# Altium footprint library AHRS.PcbLib: 12 footprints
Each footprint in its own frame and in the unit in brackets; x right, y up, seen from the top. Pads: shape width x height; smd on the part's side, far side on the other; paste and mask are expansions set on the pad; w line width, h text height; cw(c..) or ccw(c..) is an arc to the next point about the centre after c.
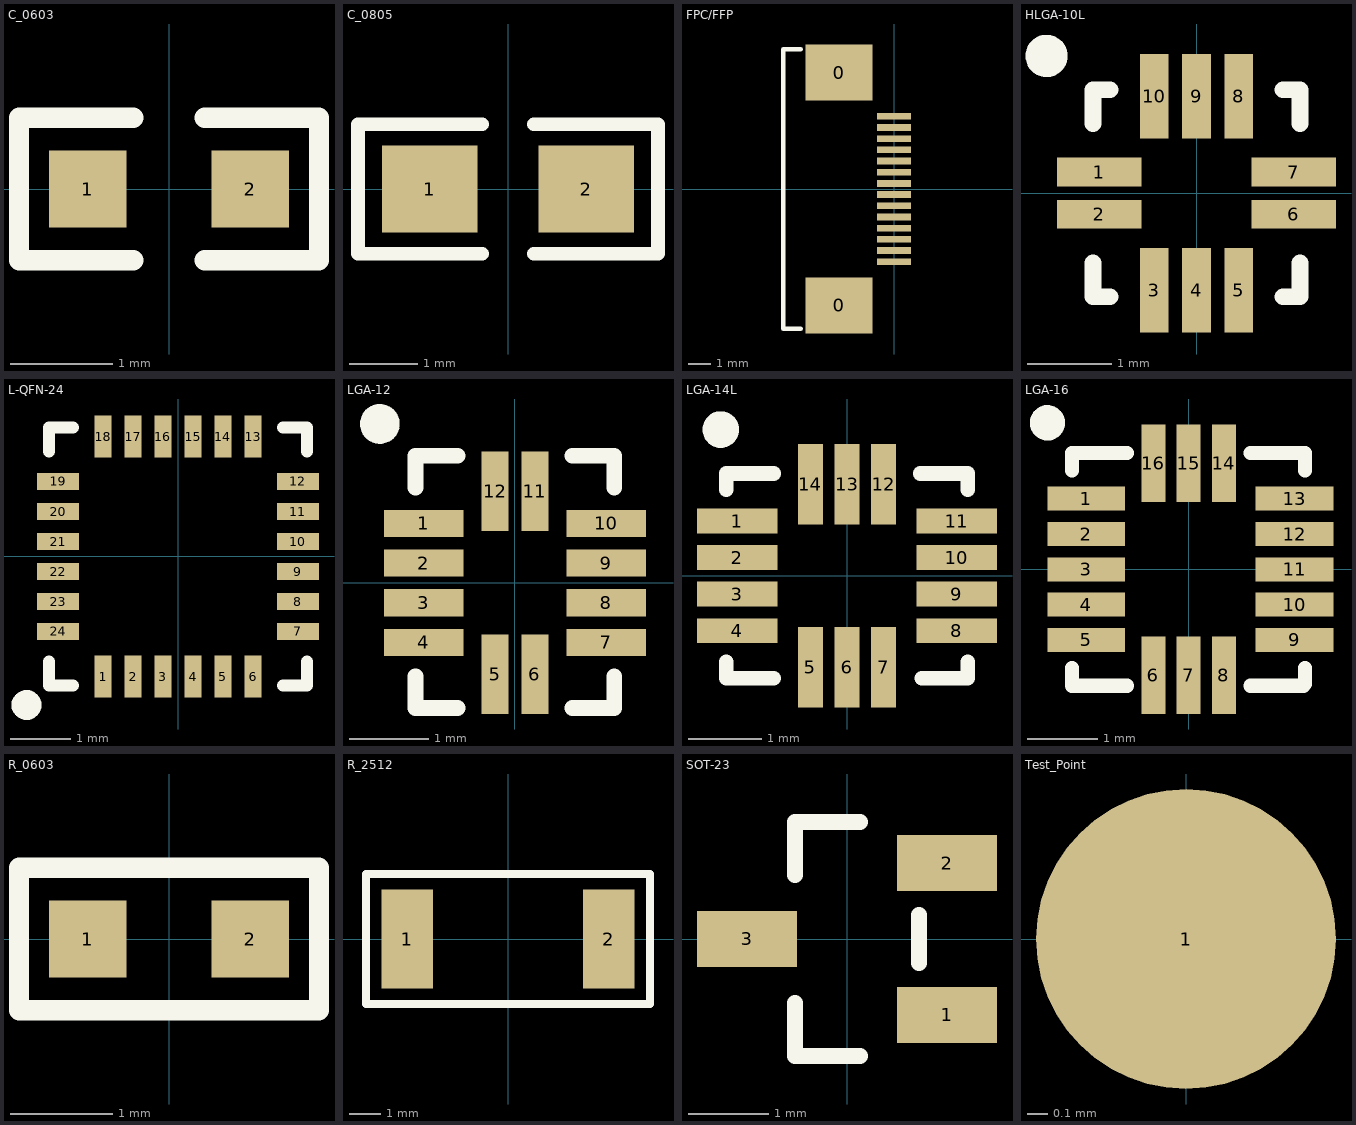
[diagram p0: the footprints below, top view; thin cyan lines are the x and y axes]

## C_0603 [mil]
pads (2):
  rect 30x30 smd: 1(-31.5,0) 2(31.5,0)
Top Overlay:
  lines w7.87: -13.78,-27.56 -58.07,-27.56 -58.07,27.56 -13.78,27.56 ; 13.78,-27.56 58.07,-27.56 58.07,27.56 13.78,27.56

## C_0805 [mm]
pads (2):
  rect 1.4x1.27 smd: 1(-1.15,0) 2(1.15,0)
Top Overlay:
  lines w0.2: -0.375,-0.95 -2.2,-0.95 -2.2,0.95 -0.375,0.95 ; 0.375,-0.95 2.2,-0.95 2.2,0.95 0.375,0.95

## FPC/FFP [mm]
pads (16):
  rect 3x2.5 smd mask+0.05: 0(-2.45,-5.2) 0(-2.45,5.2)
  rect 1.5x0.3 smd mask+0.05: 1(0,3.25) 2(0,2.75) 3(0,2.25) 4(0,1.75) 5(0,1.25) 6(0,0.75) 7(0,0.25) 8(0,-0.25) 9(0,-0.75) 10(0,-1.25) 11(0,-1.75) 12(0,-2.25) 13(0,-2.75) 14(0,-3.25)
Top Overlay:
  lines w0.2: -4.175,-6.25 -4.95,-6.25 -4.95,6.25 -4.175,6.25

## HLGA-10L [mm]
pads (10):
  rect 1x0.34 smd mask+0.05: 1(-1.15,0.25) 2(-1.15,-0.25) 6(1.15,-0.25) 7(1.15,0.25)
  rect 0.34x1 smd mask+0.05: 3(-0.5,-1.15) 4(0,-1.15) 5(0.5,-1.15) 8(0.5,1.15) 9(0,1.15) 10(-0.5,1.15)
Top Overlay:
  circle w0.25: c-1.775,1.625 r0.125
  lines w0.2: -1.225,-0.825 -1.225,-1.225 -1.025,-1.225 ; -1.225,0.825 -1.225,1.225 -1.025,1.225 ; 1.025,-1.225 1.225,-1.225 1.225,-0.825 ; 1.025,1.225 1.225,1.225 1.225,0.825

## L-QFN-24 [mm]
pads (24):
  rect 0.28x0.7 smd mask+0.051: 1(-1.25,-2) 2(-0.75,-2) 3(-0.25,-2) 4(0.25,-2) 5(0.75,-2) 6(1.25,-2) 13(1.25,2) 14(0.75,2) 15(0.25,2) 16(-0.25,2) 17(-0.75,2) 18(-1.25,2)
  rect 0.7x0.28 smd mask+0.051: 7(2,-1.25) 8(2,-0.75) 9(2,-0.25) 10(2,0.25) 11(2,0.75) 12(2,1.25) 19(-2,1.25) 20(-2,0.75) 21(-2,0.25) 22(-2,-0.25) 23(-2,-0.75) 24(-2,-1.25)
Top Overlay:
  circle w0.25: c-2.525,-2.475 r0.125
  lines w0.2: -2.15,-1.75 -2.15,-2.15 -1.75,-2.15 ; -2.15,1.75 -2.15,2.15 -1.75,2.15 ; 1.75,-2.15 2.15,-2.15 2.15,-1.75 ; 1.75,2.15 2.15,2.15 2.15,1.75

## LGA-12 [mm]
pads (12):
  rect 1x0.34 smd mask+0.05: 1(-1.15,0.75) 2(-1.15,0.25) 3(-1.15,-0.25) 4(-1.15,-0.75) 7(1.15,-0.75) 8(1.15,-0.25) 9(1.15,0.25) 10(1.15,0.75)
  rect 0.34x1 smd mask+0.05: 5(-0.25,-1.15) 6(0.25,-1.15) 11(0.25,1.15) 12(-0.25,1.15)
Top Overlay:
  circle w0.25: c-1.7,2 r0.125
  lines w0.2: -1.25,-1.175 -1.25,-1.575 -0.725,-1.575 ; -1.25,1.2 -1.25,1.6 -0.725,1.6 ; 0.725,-1.575 1.25,-1.575 1.25,-1.175 ; 0.725,1.6 1.25,1.6 1.25,1.2

## LGA-14L [mm]
pads (14):
  rect 1.1x0.34 smd mask+0.05: 1(-1.5,0.75) 2(-1.5,0.25) 3(-1.5,-0.25) 4(-1.5,-0.75) 8(1.5,-0.75) 9(1.5,-0.25) 10(1.5,0.25) 11(1.5,0.75)
  rect 0.34x1.1 smd mask+0.05: 5(-0.5,-1.25) 6(0,-1.25) 7(0.5,-1.25) 12(0.5,1.25) 13(0,1.25) 14(-0.5,1.25)
Top Overlay:
  circle w0.25: c-1.725,2 r0.125
  lines w0.2: -1.65,-1.175 -1.65,-1.4 -1,-1.4 ; -1.65,1.175 -1.65,1.4 -1,1.4 ; 1,1.4 1.65,1.4 1.65,1.175 ; 1.025,-1.4 1.65,-1.4 1.65,-1.175

## LGA-16 [mm]
pads (16):
  rect 1.1x0.34 smd mask+0.05: 1(-1.45,1) 2(-1.45,0.5) 3(-1.45,0) 4(-1.45,-0.5) 5(-1.45,-1) 9(1.5,-1) 10(1.5,-0.5) 11(1.5,0) 12(1.5,0.5) 13(1.5,1)
  rect 0.34x1.1 smd mask+0.05: 6(-0.5,-1.5) 7(0,-1.5) 8(0.5,-1.5) 14(0.5,1.5) 15(0,1.5) 16(-0.5,1.5)
Top Overlay:
  circle w0.25: c-2,2.075 r0.125
  lines w0.2: -1.65,-1.65 -0.875,-1.65 ; -1.65,-1.625 -1.65,-1.4 ; -1.65,1.4 -1.65,1.625 ; -1.65,1.65 -0.875,1.65 ; 0.875,-1.65 1.625,-1.65 ; 0.875,1.65 1.65,1.65 ; 1.65,-1.625 1.65,-1.4 ; 1.65,1.4 1.65,1.625

## R_0603 [mil]
pads (2):
  rect 30x30 smd: 1(-31.5,0) 2(31.5,0)
Top Overlay:
  lines w7.87: -58.07,-27.56 58.07,-27.56 58.07,27.56 -58.07,27.56 -58.07,-27.56

## R_2512 [mil]
pads (2):
  rect 65x125 smd: 1(-127.5,0) 2(127.5,0)
Top Overlay:
  lines w10: -180,-82.5 180,-82.5 180,82.5 -180,82.5 -180,-82.5

## SOT-23 [mm]
pads (3):
  rect 1.25x0.7 smd: 1(1.25,-0.95) 2(1.25,0.95) 3(-1.25,0)
Top Overlay:
  lines w0.2: -0.65,-0.8 -0.65,-1.46 0.165,-1.46 ; -0.65,0.8 -0.65,1.46 0.165,1.46 ; 0.9,-0.3 0.9,0.3

## Test_Point [mm]
pads (1):
  round 1.5 smd mask+0.05: 1(0,0)